# Altium integrated library PTV09A-4225F-B104.IntLib: 1 symbol
Pins are listed as number, name and electrical type; pins without a type are passive.

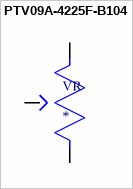
[diagram p0: symbol PTV09A-4225F-B104]

## PTV09A-4225F-B104
designator VR
100k Ohm 1 Gang Linear Through Hole, Snap In Potentiometer Detent 1 Kierros Carbon 0.05W, 1/20W PC Pins, Board Locks; MP: PTV09A-4225F-B104; MF: Bourns; Value: *; Package: None; Price: None; Availability: Unavailable; SnapEDA_Link: https://www.snapeda.com/parts/PTV09A-4225F-B104/Bourns/view-part/1448300/?ref=snap
footprint PTV09
pins: 1 (io), 2 (io), 3 (io)